# Altium schematic symbol library KPC357NT.Schlib: 1 symbol
Pins are listed as number, name and electrical type; pins without a type are passive.

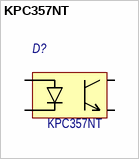
[diagram p0: symbol KPC357NT]

## KPC357NT
designator D?
4-pin MINI-FLAT phototransistor photocoupler; Потребление, Вт: 0,024; Назначение: 4-pin MINI-FLAT phototransistor photocoupler; ComponentLink1Description: DataSheet; ComponentLink1URL: https://static.chipdip.ru/lib/003/DOC013003633.pdf; Наименование: KPC357NT
footprint SOP-4
pins: 1, 2, 3, 4